# EAGLE library part DK1A1B-L2 (library Panasonic Relay)
DK - 1 Form A 1 Form B - 2 coil latching Data sheet <https://www.panasonic-electric-works.com/eu/download.htm?id=55723> Parameters Max. switching voltage: 125V DC, 250V AC Max. switching current: 10 A / 8 A Operational function: Single side stable, 1 coil latching, 2 coil latching Contact arrangement: 1 NO / 2 NO / 1 NO 1 NC Applications Options Also available as single side stable and 1 coil latching version
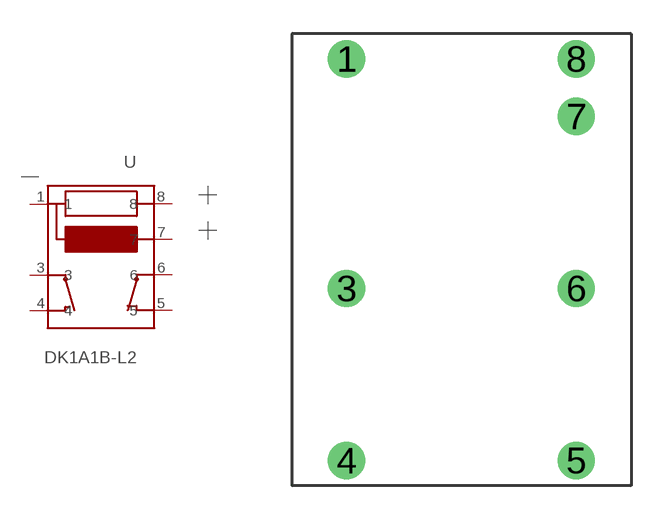
[diagram p54: symbol with the pads of DK_1_FORM_A_1_FORM_B_TYPE/2_FORM_A_TYPE_2CLT; footprint DK_1_FORM_A_1_FORM_B_TYPE/2_FORM_A_TYPE_2CLT]

Designator prefix -

## DK1A1B-L2-12V (U_COIL: 12V DC), DK1A1B-L2-24V (U_COIL: 24V DC), DK1A1B-L2-3V (U_COIL: 3V DC), DK1A1B-L2-5V (U_COIL: 5V DC), DK1A1B-L2-6V (U_COIL: 6V DC), DK1A1B-L2-9V (U_COIL: 9V DC)  [DK_1_FORM_A_1_FORM_B_TYPE/2_FORM_A_TYPE_2CLT]
1  1
3  3
4  4
5  5
6  6
7  7
8  8

## Footprint DK_1_FORM_A_1_FORM_B_TYPE/2_FORM_A_TYPE_2CLT (pad centres in mm)
drill 1.1: 1 -5.08,8.89; 3 -5.08,-1.27; 4 -5.08,-8.89; 5 5.08,-8.89; 6 5.08,-1.27; 7 5.08,6.35; 8 5.08,8.89